# Altium footprint library MYO-BT_PCBLib.PcbLib: 5 footprints
Each footprint in its own frame and in the unit in brackets; x right, y up, seen from the top. Pads: shape width x height; smd on the part's side, far side on the other; paste and mask are expansions set on the pad; w line width, h text height; cw(c..) or ccw(c..) is an arc to the next point about the centre after c.
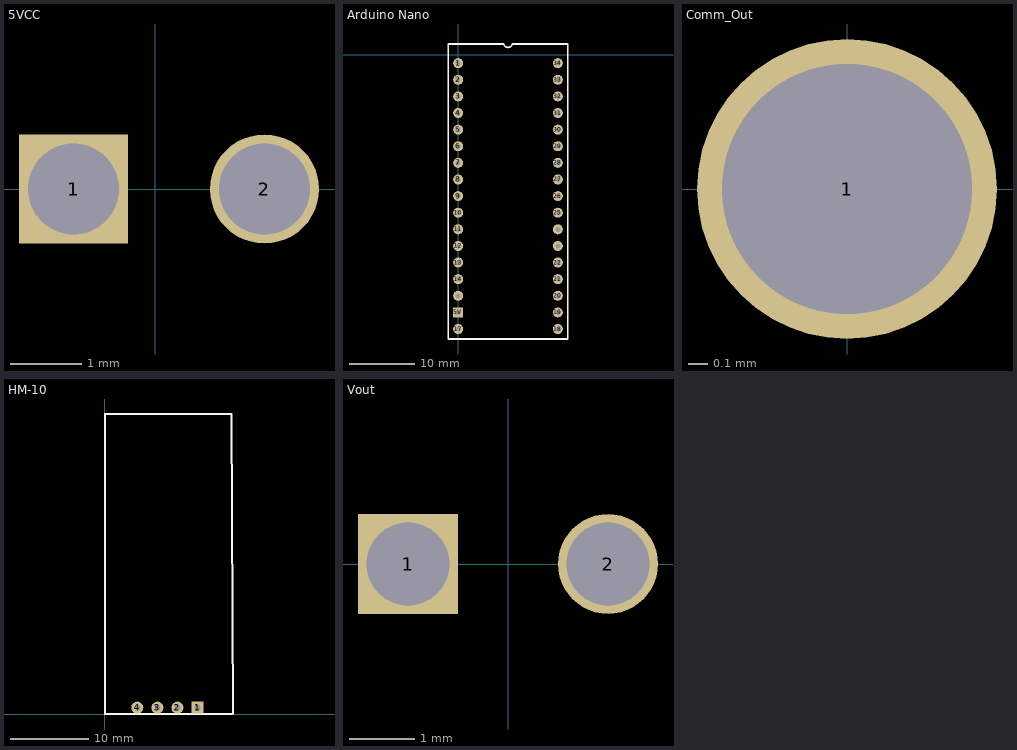
[diagram p0: the footprints below, top view; thin cyan lines are the x and y axes]

## 5VCC [mil]
pads (2):
  rect 60x60 hole 50 square: 1(-45,0)
  round 60 hole 50: 2(60,0)

## Arduino Nano [mil]
pads (34):
  round 60 hole 30: 1(0,-50) 2(0,-150) 3(0,-250) 4(0,-350) 5(0,-450) 6(0,-550) 7(0,-650) 8(0,-750) 9(0,-850) 10(0,-950) 11(0,-1050) 12(0,-1150) 13(0,-1250) 14(0,-1350) 17(0,-1650) 18(600,-1650) 19(600,-1550) 20(600,-1450) 21(600,-1350) 22(600,-1250) 25(600,-950) 26(600,-850) 27(600,-750) 28(600,-650) 29(600,-550) 30(600,-450) 31(600,-350) 32(600,-250) 33(600,-150) 34(600,-50) GND(0,-1450) RXD(600,-1150) TXD(600,-1050)
  rect 60x60 hole 30 square: 5V(0,-1550)
Top Overlay:
  lines w10: -60,-1710 -60,65 135,65 275,65 ccw(c300,70) 325,65 660,65 660,-1710 -60,-1710

## Comm_Out [mil]
pads (1):
  round 60 hole 50: 1(0,0)

## HM-10 [mil]
pads (4):
  rect 60x60 hole 30 square: 1(462.99,31.5)
  round 60 hole 30: 2(362.2,31.5) 3(262.2,31.5) 4(161.42,31.5)
Top Overlay:
  lines w10: 633.07,0 0,0 0,1499.61 633.07,1499.61 640,0

## Vout [mil]
pads (2):
  rect 60x60 hole 50 square: 1(-60,0)
  round 60 hole 50: 2(60,0)